# Altium schematic symbol library Power-LDO-RT9193_8N.SchLib: 1 symbol
Pins are listed as number, name and electrical type; pins without a type are passive.

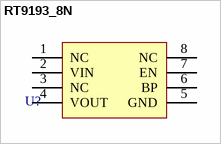
[diagram p0: symbol RT9193_8N]

## RT9193_8N
designator U?
pins: 1 NC, 2 VIN, 3 NC, 4 VOUT, 5 GND, 6 BP, 7 EN, 8 NC